# EAGLE library part DET_ADL5511 (library balanced_detector_pcb)
DC to 6 GHz Envelope and TruPwr RMS Detector
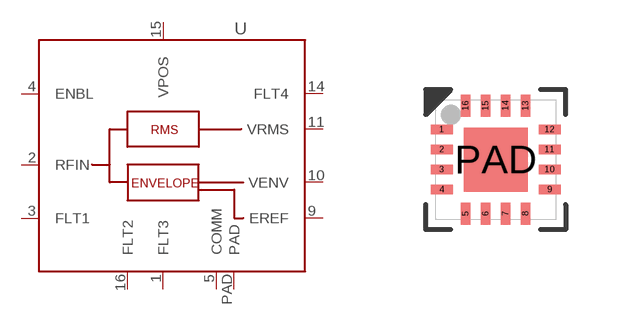
[diagram p2: symbol with the pads of LFCSP_16; footprint LFCSP_16]

Designator prefix U

## DET_ADL5511 (MFG: ANALOG DEVICES; MPN: ADL5511ACPZ; PRICE: 23.7; VENDOR: DIGIKEY; VPN: ADL5511ACPZ-R7CT-ND)  [LFCSP_16]
1  FLT3  pas
2  RFIN  pas
3  FLT1  pas
4  ENBL  pas
5  COMM  pas
9  EREF  pas
10  VENV  pas
11  VRMS  pas
14  FLT4  pas
15  VPOS  pas
16  FLT2  pas
PAD  PAD  pas

## Footprint LFCSP_16 (pad centres in mm)
smd 0.55 x 0.23: 1 -1.35,0.75; 2 -1.35,0.25; 3 -1.35,-0.25; 4 -1.35,-0.75; 9 1.35,-0.75; 10 1.35,-0.25; 11 1.35,0.25; 12 1.35,0.75
smd 0.23 x 0.55: 5 -0.75,-1.35; 6 -0.25,-1.35; 7 0.25,-1.35; 8 0.75,-1.35; 13 0.75,1.35; 14 0.25,1.35; 15 -0.25,1.35; 16 -0.75,1.35
smd 1.6 x 1.6: PAD 0,0